# EAGLE library part TPS61022RWUR (library DCDC)
8-A boost converter with 0.5-V ultra-low input voltage Source: Datasheet <http://www.ti.com/lit/gpn/TPS61022>
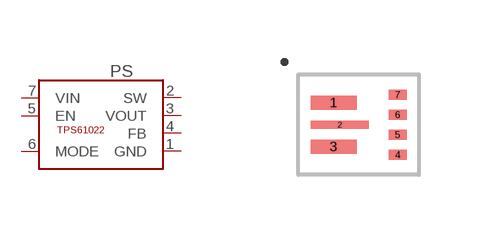
[diagram p2: symbol with the pads of TPS61022RWUR; footprint TPS61022RWUR]

Designator prefix PS

## TPS61022RWUR (DESCRIPTION: 8-A boost converter with 0.5-V ultra-low input voltage; HEIGHT: 1mm; MANUFACTURER_NAME: Texas Instruments; MANUFACTURER_PART_NUMBER: TPS61022RWUR; MOUSER_PART_NUMBER: 595-TPS61022RWUR; MOUSER_PRICE-STOCK: https://www.mouser.co.uk/ProductDetail/Texas-Instruments/TPS61022RWUR?qs=vLWxofP3U2zlxrk4cD0iFA%3D%3D)  [TPS61022RWUR]
1  GND
2  SW
3  VOUT
4  FB
5  EN
6  MODE
7  VIN

## Footprint TPS61022RWUR (pad centres in mm)
TPS61022RWUR-2
smd 1.15 x 0.35: 1 -0.625,0.55; 3 -0.625,-0.55
smd 1.45 x 0.2: 2 -0.475,0
smd 0.45 x 0.25: 4 0.975,-0.75; 5 0.975,-0.25; 6 0.975,0.25; 7 0.975,0.75